# EAGLE library part PINHD-1X6 (library HelaTronix - Connectors)
PIN HEADER 2.54mm 1X06
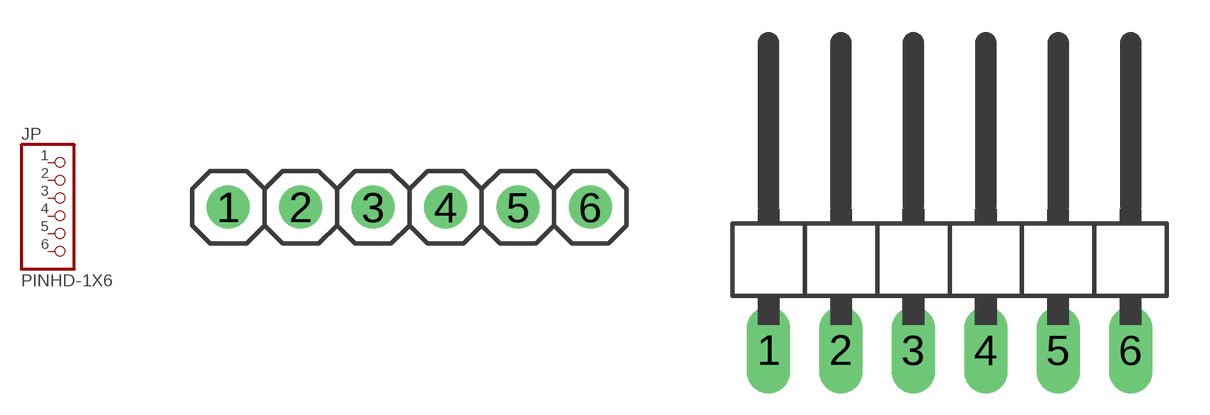
[diagram p10: symbol with the pads of 1X06; footprints 1X06, 1X06/90]

Designator prefix JP

## PINHD-1X6/180 (LCSC#: C124380; LCSC_LINK: https://lcsc.com/product-detail/Pin-Header-Female-Header_Ckmtw-Shenzhen-Cankemeng-C124380_C124380.html; MANUFACTURER: Ckmtw(Shenzhen Cankemeng); MFR#: C124380)  [1X06]
1  1  pas
2  2  pas
3  3  pas
4  4  pas
5  5  pas
6  6  pas

## PINHD-1X6/90  [1X06/90]
Pads as for 1X06

## PINHD-1X6-XH  [B6B-XH-A]
Pads as for 1X06

## PINHD-1X6-VH  [VH-6A]
Pads as for 1X06

## PINHD-1X6/WJ2EDGVC-5.08  [WJ2EDGVC-5.08-6P]
Pads as for 1X06

## PINHD-1X6/WJ127-5.0-6P (LCSC#: C192781)  [WJ127-5.0-6P]
Pads as for 1X06

## PINHD-1X6-KF2EDGR-2.54  [KF2EDGR-2.54-6P]
Pads as for 1X06

## PINHD-1X6/WJ2EDGRC-5.08  [WJ2EDGRC-5.08-6P]
Pads as for 1X06

## Footprint 1X06 (pad centres in mm)
PIN HEADER
drill 1: 1 -6.35,0; 2 -3.81,0; 3 -1.27,0; 4 1.27,0; 5 3.81,0; 6 6.35,0

## Footprint 1X06/90 (pad centres in mm)
PIN HEADER
drill 1.016 long: 1 -6.35,-3.81; 2 -3.81,-3.81; 3 -1.27,-3.81; 4 1.27,-3.81; 5 3.81,-3.81; 6 6.35,-3.81

## Footprint B6B-XH-A (pad centres in mm)
drill 1 long: 1 -6.35,0; 2 -3.81,0; 3 -1.27,0; 4 1.27,0; 5 3.81,0; 6 6.35,0

## Footprint VH-6A (pad centres in mm)
drill 1.3 long: 1 -9.9,0; 2 -5.94,0; 3 -1.98,0; 4 1.98,0; 5 5.94,0; 6 9.9,0

## Footprint WJ2EDGVC-5.08-6P (pad centres in mm)
drill 1.6 long: 1 -12.7,0; 2 -7.62,0; 3 -2.54,0; 4 2.54,0; 5 7.62,0; 6 12.7,0

## Footprint WJ127-5.0-6P (pad centres in mm)
drill 1.2 long: 1 -12.5,0; 2 -7.5,0; 3 -2.5,0; 4 2.5,0; 5 7.5,0; 6 12.5,0

## Footprint KF2EDGR-2.54-6P (pad centres in mm)
Male KF2EDGK-2.54 Female 90 KF2EDGR-2.54
drill 1 long: 1 -6.35,0; 2 -3.81,0; 3 -1.27,0; 4 1.27,0; 5 3.81,0; 6 6.35,0

## Footprint WJ2EDGRC-5.08-6P (pad centres in mm)
Male - WJ2EDGK-5.08 Female 90 - WJ2EDGRC-5.08
drill 1.6 long: 1 -12.7,0; 2 -7.62,0; 3 -2.54,0; 4 2.54,0; 5 7.62,0; 6 12.7,0